# Altium schematic symbol library TXU0104PWR.Schlib: 1 symbol
Pins are listed as number, name and electrical type; pins without a type are passive.

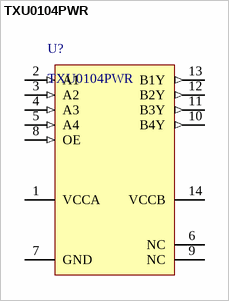
[diagram p0: symbol TXU0104PWR]

## TXU0104PWR
designator U?
Voltage Level Translator Unidirectional 1 Circuit 4 Channel 200Mbps 14-TSSOP
pins: 1 VCCA (power), 2 A1 (in), 3 A2 (in), 4 A3 (in), 5 A4 (in), 6 NC, 7 GND (power), 8 OE (in), 9 NC, 10 B4Y (out), 11 B3Y (out), 12 B2Y (out), 13 B1Y (out), 14 VCCB (power)